# EAGLE library part 74LVC1T45 (library 74XXX-little-logic)
SINGLE-BIT DUAL-SUPPLY BUS TRANSCEIVER
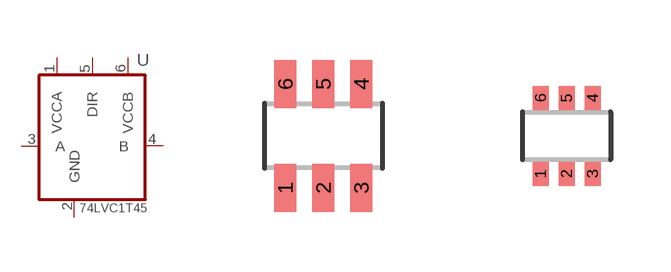
[diagram p2: symbol with the pads of SOT23-6; footprints SOT23-6, SC70-6]

Designator prefix U

## 74LVC1T45DBV (P1I: o)  [SOT23-6]
1  VCCA  pwr
2  GND  pwr
3  A
4  B
5  DIR  in
6  VCCB  pwr

## 74LVC1T45DCK (P1I: o)  [SC70-6]
Pads as for SOT23-6

## 74LVC1T45DRL (P1I: o)  [SOT-6]
Pads as for SOT23-6

## 74LVC1T45Z6-7 (DIGIKEY: 74LVC1T45Z6-7DICT-ND; MFR: Diodes Inc; MPN: 74LVC1T45Z6-7; P1I: o)  [SOT563]
Pads as for SOT23-6

## 74LVC1T45FW4 (DIGIKEY: 74LVC1T45FW4-7DICT-ND; MFR: Diodes Incorporated; MPN: 74LVC1T45FW4-7; P1I: o)  [X2-DFN1010-6]
Pads as for SOT23-6

## Footprint SOT23-6 (pad centres in mm)
SOT-23 - DBV 0.95 mm pitch
smd 0.55 x 1.2: 1 -0.95,-1.3; 2 0,-1.3; 3 0.95,-1.3; 4 0.95,1.3; 5 0,1.3; 6 -0.95,1.3

## Footprint SC70-6 (pad centres in mm)
SC70 - DCK 0.65 mm pitch
smd 0.4 x 0.6: 1 -0.65,-0.95; 2 0,-0.95; 3 0.65,-0.95; 4 0.65,0.95; 5 0,0.95; 6 -0.65,0.95

## Footprint SOT-6 (pad centres in mm)
SOT - DRL 0.50 mm pitch
smd 0.55 x 1.2: 1 -1,-1.5; 2 0,-1.5; 3 1,-1.5; 4 1,1.5; 5 0,1.5; 6 -1,1.5

## Footprint SOT563 (pad centres in mm)
SOT-563 DRL (R-PDSO-N6)
smd 0.3 x 0.5: 1 -0.5,-0.675; 2 0,-0.675; 3 0.5,-0.675; 4 0.5,0.675; 5 0,0.675; 6 -0.5,0.675

## Footprint X2-DFN1010-6 (pad centres in mm)
smd 0.48 x 0.24: 1 -0.32,0.39
smd 0.48 x 0.17: 2 -0.32,0; 3 -0.32,-0.35; 4 0.32,-0.35; 5 0.32,0; 6 0.32,0.35